# Altium integrated library Driver relé.IntLib: 12 symbols
Pins are listed as number, name and electrical type; pins without a type are passive.

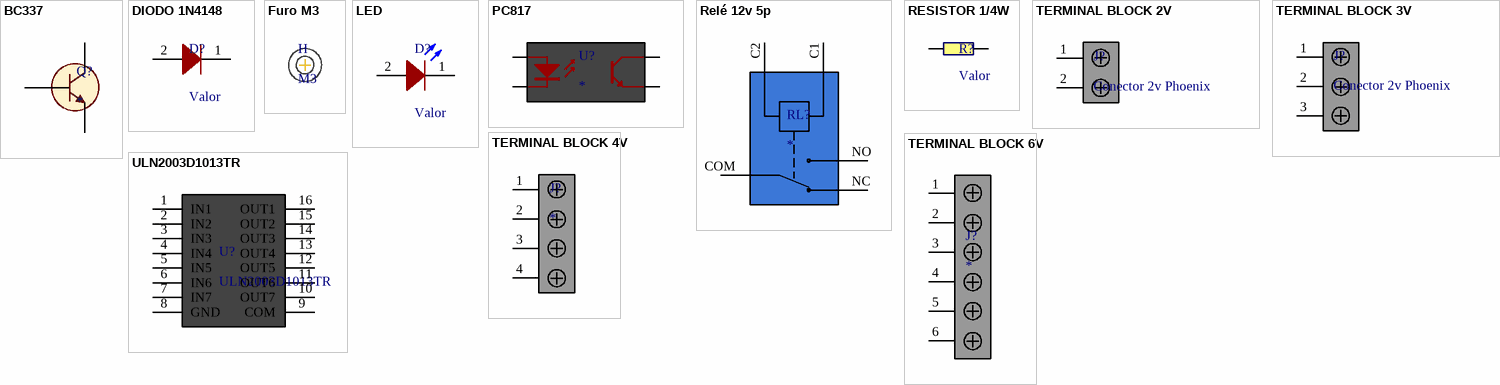
[diagram p0: symbols BC337 to ULN2003D1013TR]

## BC337
designator Q?
footprint TO 92
pins: 1 C, 2 B, 3 E

## DIODO 1N4148
designator D?, comment Valor
Diodo rapido; Published: 8-Jun-2000; LatestRevisionDate: 17-Jul-2002; LatestRevisionNote: Re-released for DXP Platform.; DatasheetVersion: 1997; PackageReference: DO-35; Publisher: Altium Limited; PackageDescription: Diode, Axial; Body 3.8 x 1.9 mm (LxDia. max), Lead Dia. 0.53 mm (max); Code_JEDEC: DO-204-AH; ComponentLink1Description: Manufacturer Link; ComponentLink1URL: http://www.fairchildsemi.com/; ComponentLink2Description: Datasheet; ComponentLink2URL: http://www.fairchildsemi.com/ds/1N%2F1N4148.pdf
footprint 1N4148 DO-35
pins: 1, 2

## Furo M3
designator H, comment M3
footprint Parafuso M3

## LED
designator D?, comment Valor
Typical RED, GREEN, YELLOW, AMBER GaAs LED; Published: 8-Jun-2000; LatestRevisionDate: 17-Jul-2002; LatestRevisionNote: Re-released for DXP Platform.; PackageVersion: Feb-2002; PackageReference: 3.2X1.6X1.1; Publisher: Altium Limited; PackageDescription: SM LED; 2 Flat Leads
footprint LED 3MM
pins: 1 2, 2 1

## PC817
designator U?
footprint PC817 DIP-4
pins: 1 A "Anode", 2 K "Cathode", 3 E "Emitter", 4 C "Collector"

## Relé 12v 5p
designator RL?
footprint RELAY
pins: C1 COIL_1, C2 COIL_2, COM, NC, NO

## RESISTOR 1/4W
designator R?, comment Valor
Resistor; Published: 8-Jun-2000; LatestRevisionDate: 17-Jul-2002; LatestRevisionNote: Re-released for DXP Platform.; PackageReference: AXIAL-0.4; Publisher: Altium Limited; PackageDescription: Axial Device, Thru-Hole; 2 Leads; 0.4 in Pin Spacing
footprint RES 1/4 PTH
pins: 1, 2

## TERMINAL BLOCK 2V
designator J?, comment Conector 2v Phoenix
Block, Terminal; 6 A; 63 V; 5 mm; 26 to 20 AWG; 2; Screw; Soldering; 1.5 kV; Manufacturer: Phoenix Contact; Manufacturer Part Number: 1725656; Current Rating: 6A; Voltage Rating: 125V; Number of Positions: 2; Number of Levels: 1; Connector Type: Screw,PCB,Terminal Block; Max Supply Voltage: 63V; Pitch: 2.54mm; Wire Gauge (Max): 26AWG; Wire Gauge (Min): 20AWG; Stripping Length: 4.5mm; Approvals: UL,CSA,cULus,EAC; RoHS: Yes; Category: Terminal Blocks; Stock 1: 29866; Pricing 1: 1=1,94000, 10=1,76000, 50=1,69000, 100=1,64000, 1000=1,27000, 10000=1,17000 (USD); Mount: Through Hole; Number of Pins: 2; Contact Material: Tin; Weight: 0.022575oz; Housing Material: Polyamide; Color: Green; Housing Color: Green; Insulation Material: Nylon; Package Quantity: 50; Packaging: Bulk; Termination: Solder; Series: MPT; Max Current Rating: 6A; Number of Contacts: 2; Number of Rows: 1; Number of Positions Per Level: 2; Current: 6A; Voltage: 125V; Orientation: Straight; Number of Poles: 2; Number of Circuits: 2; Length: 5.54mm; Width: 12mm; Height: 6.2mm; Depth: 6.2mm; Wire/Cable Gauge: 26AWG; Radiation Hardening: No; RoHS Compliant: Yes; Lead Free: Lead Free; Flammability Rating: UL94 V-0; Reach SVHC Compliant: Yes; ComponentLink1URL: https://datasheet.ciiva.com/16071/1725656-16071846.pdf?src-supplier=Onlinecomponents.com; ComponentLink1Description: https://datasheet.ciiva.com/16071/1725656-16071846.pdf?src-supplier=Onlinecomponents.com; ComponentLink2URL: https://datasheet.ciiva.com/15169/getdatasheetpartid-199323-15169849.pdf?src-supplier=Verical; ComponentLink2Description: https://datasheet.ciiva.com/15169/getdatasheetpartid-199323-15169849.pdf?src-supplier=Verical; ComponentLink3URL: https://datasheet.ciiva.com/823/1725656-823793.pdf?src-supplier=Digi-Key; ComponentLink3Description: https://datasheet.ciiva.com/823/1725656-823793.pdf?src-supplier=Digi-Key; ComponentLink4URL: https://datasheet.ciiva.com/1120/319957-1120510.pdf?src-supplier=Farnell; ComponentLink4Description: https://datasheet.ciiva.com/1120/319957-1120510.pdf?src-supplier=Farnell; ComponentLink5URL: https://datasheet.ciiva.com/26340/788052-da-01-en-100ntklemme-1725656-250-st-26340907.pdf?src-supplier=Conrad; ComponentLink5Description: https://datasheet.ciiva.com/26340/788052-da-01-en-100ntklemme-1725656-250-st-26340907.pdf?src-supplier=Conrad; Supplier Part Number 1: 651-1725656
footprint Terminal block 5mm 2V
pins: 1, 2

## TERMINAL BLOCK 3V
designator J?, comment Conector 2v Phoenix
Block, Terminal; 6 A; 63 V; 5 mm; 26 to 20 AWG; 3; Screw; Soldering; 1.5 kV; Manufacturer: Phoenix Contact; Manufacturer Part Number: 1725656; Current Rating: 6A; Voltage Rating: 125V; Number of Positions: 2; Number of Levels: 1; Connector Type: Screw,PCB,Terminal Block; Max Supply Voltage: 63V; Pitch: 2.54mm; Wire Gauge (Max): 26AWG; Wire Gauge (Min): 20AWG; Stripping Length: 4.5mm; Approvals: UL,CSA,cULus,EAC; RoHS: Yes; Category: Terminal Blocks; Stock 1: 29866; Pricing 1: 1=1,94000, 10=1,76000, 50=1,69000, 100=1,64000, 1000=1,27000, 10000=1,17000 (USD); Mount: Through Hole; Number of Pins: 2; Contact Material: Tin; Weight: 0.022575oz; Housing Material: Polyamide; Color: Green; Housing Color: Green; Insulation Material: Nylon; Package Quantity: 50; Packaging: Bulk; Termination: Solder; Series: MPT; Max Current Rating: 6A; Number of Contacts: 2; Number of Rows: 1; Number of Positions Per Level: 2; Current: 6A; Voltage: 125V; Orientation: Straight; Number of Poles: 2; Number of Circuits: 2; Length: 5.54mm; Width: 12mm; Height: 6.2mm; Depth: 6.2mm; Wire/Cable Gauge: 26AWG; Radiation Hardening: No; RoHS Compliant: Yes; Lead Free: Lead Free; Flammability Rating: UL94 V-0; Reach SVHC Compliant: Yes; ComponentLink1URL: https://datasheet.ciiva.com/16071/1725656-16071846.pdf?src-supplier=Onlinecomponents.com; ComponentLink1Description: https://datasheet.ciiva.com/16071/1725656-16071846.pdf?src-supplier=Onlinecomponents.com; ComponentLink2URL: https://datasheet.ciiva.com/15169/getdatasheetpartid-199323-15169849.pdf?src-supplier=Verical; ComponentLink2Description: https://datasheet.ciiva.com/15169/getdatasheetpartid-199323-15169849.pdf?src-supplier=Verical; ComponentLink3URL: https://datasheet.ciiva.com/823/1725656-823793.pdf?src-supplier=Digi-Key; ComponentLink3Description: https://datasheet.ciiva.com/823/1725656-823793.pdf?src-supplier=Digi-Key; ComponentLink4URL: https://datasheet.ciiva.com/1120/319957-1120510.pdf?src-supplier=Farnell; ComponentLink4Description: https://datasheet.ciiva.com/1120/319957-1120510.pdf?src-supplier=Farnell; ComponentLink5URL: https://datasheet.ciiva.com/26340/788052-da-01-en-100ntklemme-1725656-250-st-26340907.pdf?src-supplier=Conrad; ComponentLink5Description: https://datasheet.ciiva.com/26340/788052-da-01-en-100ntklemme-1725656-250-st-26340907.pdf?src-supplier=Conrad; Supplier Part Number 1: 651-1725656
footprint Terminal block 5mm 3V
pins: 1, 2, 3

## TERMINAL BLOCK 4V
designator J?
Block, Terminal; 6 A; 63 V; 5 mm; 26 to 20 AWG; 4 Screw; Soldering; 1.5 kV
footprint Terminal block 5mm 4V
pins: 1, 2, 3, 4

## TERMINAL BLOCK 6V
designator J?
Block, Terminal; 6 A; 63 V; 5 mm; 26 to 20 AWG; 6 Screw; Soldering; 1.5 kV
footprint Terminal block 5mm 6V
pins: 1, 2, 3, 4, 5, 6

## ULN2003D1013TR
designator U?
ULN Series 50V 500 mA High Voltage High Current Seven Darlington Array - SOIC-16; Manufacturer: STMicroelectronics; Max Collector Current: 500mA; Collector Emitter Saturation Voltage: 1.1V; Number of Elements: 7; Collector-emitter Voltage-Max: 1.6V; Polarity: NPN; Manufacturer Part Number: ULN2003D1013TR; RoHS: Yes; Category: BJTs; Stock 1: 88835; Pricing 1: 1=0,77000, 10=0,67600, 50=0,67600, 100=0,51800, 1000=0,32800, 10000=0,30800 (USD); Mount: Surface Mount; Case/Package: SO; Number of Pins: 16; Weight: 0.007079oz; Contact Plating: Gold; Min Operating Temperature: -40°C; Max Operating Temperature: 85°C; Package Quantity: 1; Packaging: Tape and Reel; Collector Emitter Voltage (VCEO): 50V; Series: -; Collector Emitter Breakdown Voltage: 50V; Max Breakdown Voltage: 50V; Output Current: 500mA; Output Voltage: 50V; Voltage Rating (DC): 50V; Current Rating: 500mA; Length: 10mm; Width: 4mm; Height: 1.65mm; Radiation Hardening: No; Lead Free: Lead Free; RoHS Compliant: Yes; Reach SVHC Compliant: Yes; ComponentLink1URL: https://datasheet.ciiva.com/1193/1690348-1193460.pdf?src-supplier=Element14; ComponentLink1Description: https://datasheet.ciiva.com/1193/1690348-1193460.pdf?src-supplier=Element14; ComponentLink2URL: https://datasheet.ciiva.com/27056/2004591-27056027.pdf?src-supplier=Jameco; ComponentLink2Description: https://datasheet.ciiva.com/27056/2004591-27056027.pdf?src-supplier=Jameco; ComponentLink3URL: https://datasheet.ciiva.com/15139/getdatasheetpartid-40506-15139848.pdf?src-supplier=Verical; ComponentLink3Description: https://datasheet.ciiva.com/15139/getdatasheetpartid-40506-15139848.pdf?src-supplier=Verical; ComponentLink4URL: https://datasheet.ciiva.com/22696/1690348-22696618.pdf?src-supplier=Element14; ComponentLink4Description: https://datasheet.ciiva.com/22696/1690348-22696618.pdf?src-supplier=Element14; ComponentLink5URL: https://datasheet.ciiva.com/22635/1690348-22635247.pdf?src-supplier=Element14; ComponentLink5Description: https://datasheet.ciiva.com/22635/1690348-22635247.pdf?src-supplier=Element14; ComponentLink6URL: https://datasheet.ciiva.com/1700/cd00001244-1700815.pdf?src-supplier=Digi-Key; ComponentLink6Description: https://datasheet.ciiva.com/1700/cd00001244-1700815.pdf?src-supplier=Digi-Key; ComponentLink7URL: https://datasheet.ciiva.com/1700/cd00001244-1700814.pdf?src-supplier=Digi-Key; ComponentLink7Description: https://datasheet.ciiva.com/1700/cd00001244-1700814.pdf?src-supplier=Digi-Key; ComponentLink8URL: https://datasheet.ciiva.com/1700/cd00001244-1700816.pdf?src-supplier=Digi-Key; ComponentLink8Description: https://datasheet.ciiva.com/1700/cd00001244-1700816.pdf?src-supplier=Digi-Key; ComponentLink9URL: https://datasheet.ciiva.com/4459/cd00001244-4459145.pdf?src-supplier=Mouser; ComponentLink9Description: https://datasheet.ciiva.com/4459/cd00001244-4459145.pdf?src-supplier=Mouser; Supplier Part Number 1: 511-ULN2003D1013TR
footprint PDIP-16
pins: 1 IN1, 2 IN2, 3 IN3, 4 IN4, 5 IN5, 6 IN6, 7 IN7, 8 GND, 9 COM, 10 OUT7, 11 OUT6, 12 OUT5, 13 OUT4, 14 OUT3, 15 OUT2, 16 OUT1